# Altium footprint library LFCSP-20.PcbLib: 1 footprints
Each footprint in its own frame and in the unit in brackets; x right, y up, seen from the top. Pads: shape width x height; smd on the part's side, far side on the other; paste and mask are expansions set on the pad; w line width, h text height; cw(c..) or ccw(c..) is an arc to the next point about the centre after c.
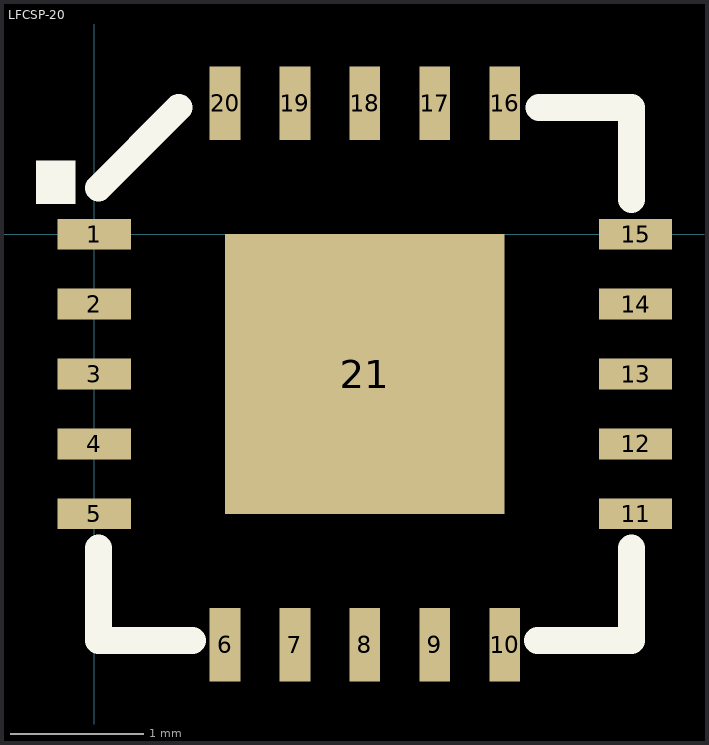
[diagram p0: the footprint, top view; thin cyan lines are the x and y axes]

## LFCSP-20 [mm]
height 1
pads (21):
  rect 0.55x0.23 smd: 1(0,0) 2(0,-0.525) 3(0,-1.05) 4(0,-1.575) 5(0,-2.1) 11(4.064,-2.1) 12(4.064,-1.575) 13(4.064,-1.05) 14(4.064,-0.525) 15(4.064,0)
  rect 0.23x0.55 smd: 6(0.982,-3.082) 7(1.507,-3.082) 8(2.032,-3.082) 9(2.557,-3.082) 10(3.082,-3.082) 16(3.082,0.982) 17(2.557,0.982) 18(2.032,0.982) 19(1.507,0.982) 20(0.982,0.982)
  rect 2.1x2.1 smd: 21(2.032,-1.05)
TopOverlay:
  rectangle: -0.438,0.227 -0.14,0.554
  lines w0.203: 0.032,-2.356 0.032,-3.05 0.739,-3.05 ; 0.032,0.347 0.635,0.95 ; 3.329,-3.05 4.032,-3.05 4.032,-2.356 ; 3.338,0.95 4.032,0.95 4.032,0.261